# Altium footprint library MidtermPCBLIB-Rev02.PcbLib: 7 footprints
Each footprint in its own frame and in the unit in brackets; x right, y up, seen from the top. Pads: shape width x height; smd on the part's side, far side on the other; paste and mask are expansions set on the pad; w line width, h text height; cw(c..) or ccw(c..) is an arc to the next point about the centre after c.
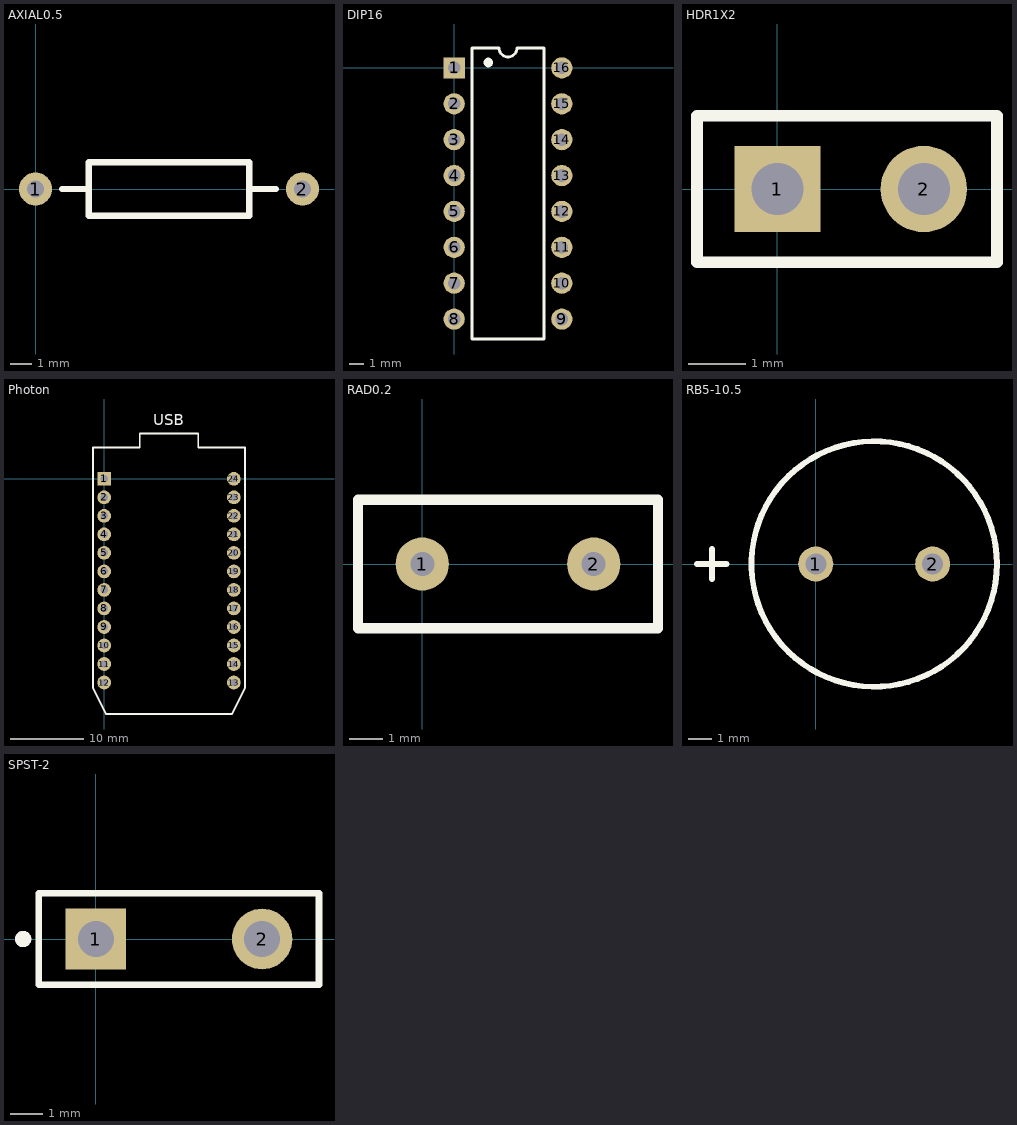
[diagram p0: the footprints below, top view; thin cyan lines are the x and y axes]

## AXIAL0.5 [mil]
pads (2):
  round 62 hole 32: 1(0,0) 2(500,0)
Top Overlay:
  lines w12: 50,0 100,0 ; 400,0 450,0 ; 100,-50 100,50 400,50 400,-50 100,-50

## DIP16 [mm] "DIP; 16 Leads; Row Spacing 7.62 mm; Pitch 2.54 mm"
height 5.08
pads (16):
  rect 1.5x1.5 hole 0.9: 1(0,0)
  round 1.5 hole 0.9: 2(0,-2.54) 3(0,-5.08) 4(0,-7.62) 5(0,-10.16) 6(0,-12.7) 7(0,-15.24) 8(0,-17.78) 9(7.62,-17.78) 10(7.62,-15.24) 11(7.62,-12.7) 12(7.62,-10.16) 13(7.62,-7.62) 14(7.62,-5.08) 15(7.62,-2.54) 16(7.62,0)
Top Overlay:
  circle w0.6: c2.413,0.381 r0.038
  lines w0.2: 1.27,-19.19 1.27,1.41 3.175,1.41 ccw(c3.81,1.41) 4.445,1.41 6.35,1.41 6.35,-19.19 1.27,-19.19

## HDR1X2 [mm]
pads (2):
  rect 1.5x1.5 hole 0.9: 1(0,0)
  round 1.5 hole 0.9: 2(2.54,0)
Top Overlay:
  lines w0.2: -1.397,-1.27 -1.397,1.27 3.81,1.27 3.81,-1.27 -1.397,-1.27

## Photon [mil]
pads (24):
  rect 74x74 hole 40: 1(0,0)
  round 74 hole 40: 2(0,-100) 3(0,-200) 4(0,-300) 5(0,-400) 6(0,-500) 7(0,-600) 8(0,-700) 9(0,-800) 10(0,-900) 11(0,-1000) 12(0,-1100) 13(700,-1100) 14(700,-1000) 15(700,-900) 16(700,-800) 17(700,-700) 18(700,-600) 19(700,-500) 20(700,-400) 21(700,-300) 22(700,-200) 23(700,-100) 24(700,0)
Top Overlay:
  lines w10: -60,-1130 -60,170 192,170 192,245 508,245 508,170 760,170 760,-1130 690,-1270 10,-1270 -60,-1130
  text "USB" at 265,290 h60

## RAD0.2 [mil]
pads (2):
  round 62 hole 28: 1(0,0) 2(200,0)
Top Overlay:
  lines w12: -75,-75 -75,75 275,75 275,-75 -75,-75

## RB5-10.5 [mm] "Capacitor (Radial); 2 Leads"
pads (2):
  round 1.5 hole 0.9: 1(0,0) 2(5,0)
Top Overlay:
  circle w0.25: c2.5,0 r5.25
  lines w0.254: -5.08,0 -3.81,0 ; -4.445,-0.635 -4.445,0.635
Mechanical 1:
  circle w0.02: c2.5,0 r5.25

## SPST-2 [mm] "Switch; 2 Leads"
pads (2):
  rect 1.85x1.85 hole 1.1: 1(0,0)
  round 1.85 hole 1.1: 2(5.08,0)
Top Overlay:
  circle w0.25: c-2.221,-0.001 r0.125
  lines w0.2: -1.74,-1.397 6.82,-1.397 6.82,1.397 -1.74,1.397 -1.74,-1.397